# Altium schematic symbol library 2049280301.SchLib: 1 symbol
Pins are listed as number, name and electrical type; pins without a type are passive.

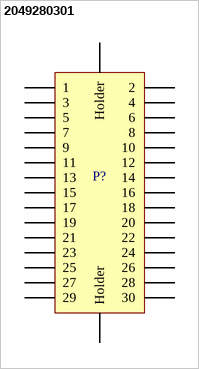
[diagram p0: symbol 2049280301]

## 2049280301
designator P?, comment OK  (value not drawn)
SlimStack Board-to-Board. Plug, 0.40mm Pitch, FSB3 Floating Series, 3.00mm. Mated Height, 3.20 Mated Width, 30 Circuits
pins: 1, 2, 3, 4, 5, 6, 7, 8, 9, 10, 11, 12, 13, 14, 15, 16, 17, 18, 19, 20, 21, 22, 23, 24, 25, 26, 27, 28, 29, 30, 31 Holder, 32 Holder